# Altium footprint library RcMPPTLib.PcbLib: 62 footprints (part 1 of 4)
Each footprint in its own frame and in the unit in brackets; x right, y up, seen from the top. Pads: shape width x height; smd on the part's side, far side on the other; paste and mask are expansions set on the pad; w line width, h text height; cw(c..) or ccw(c..) is an arc to the next point about the centre after c.
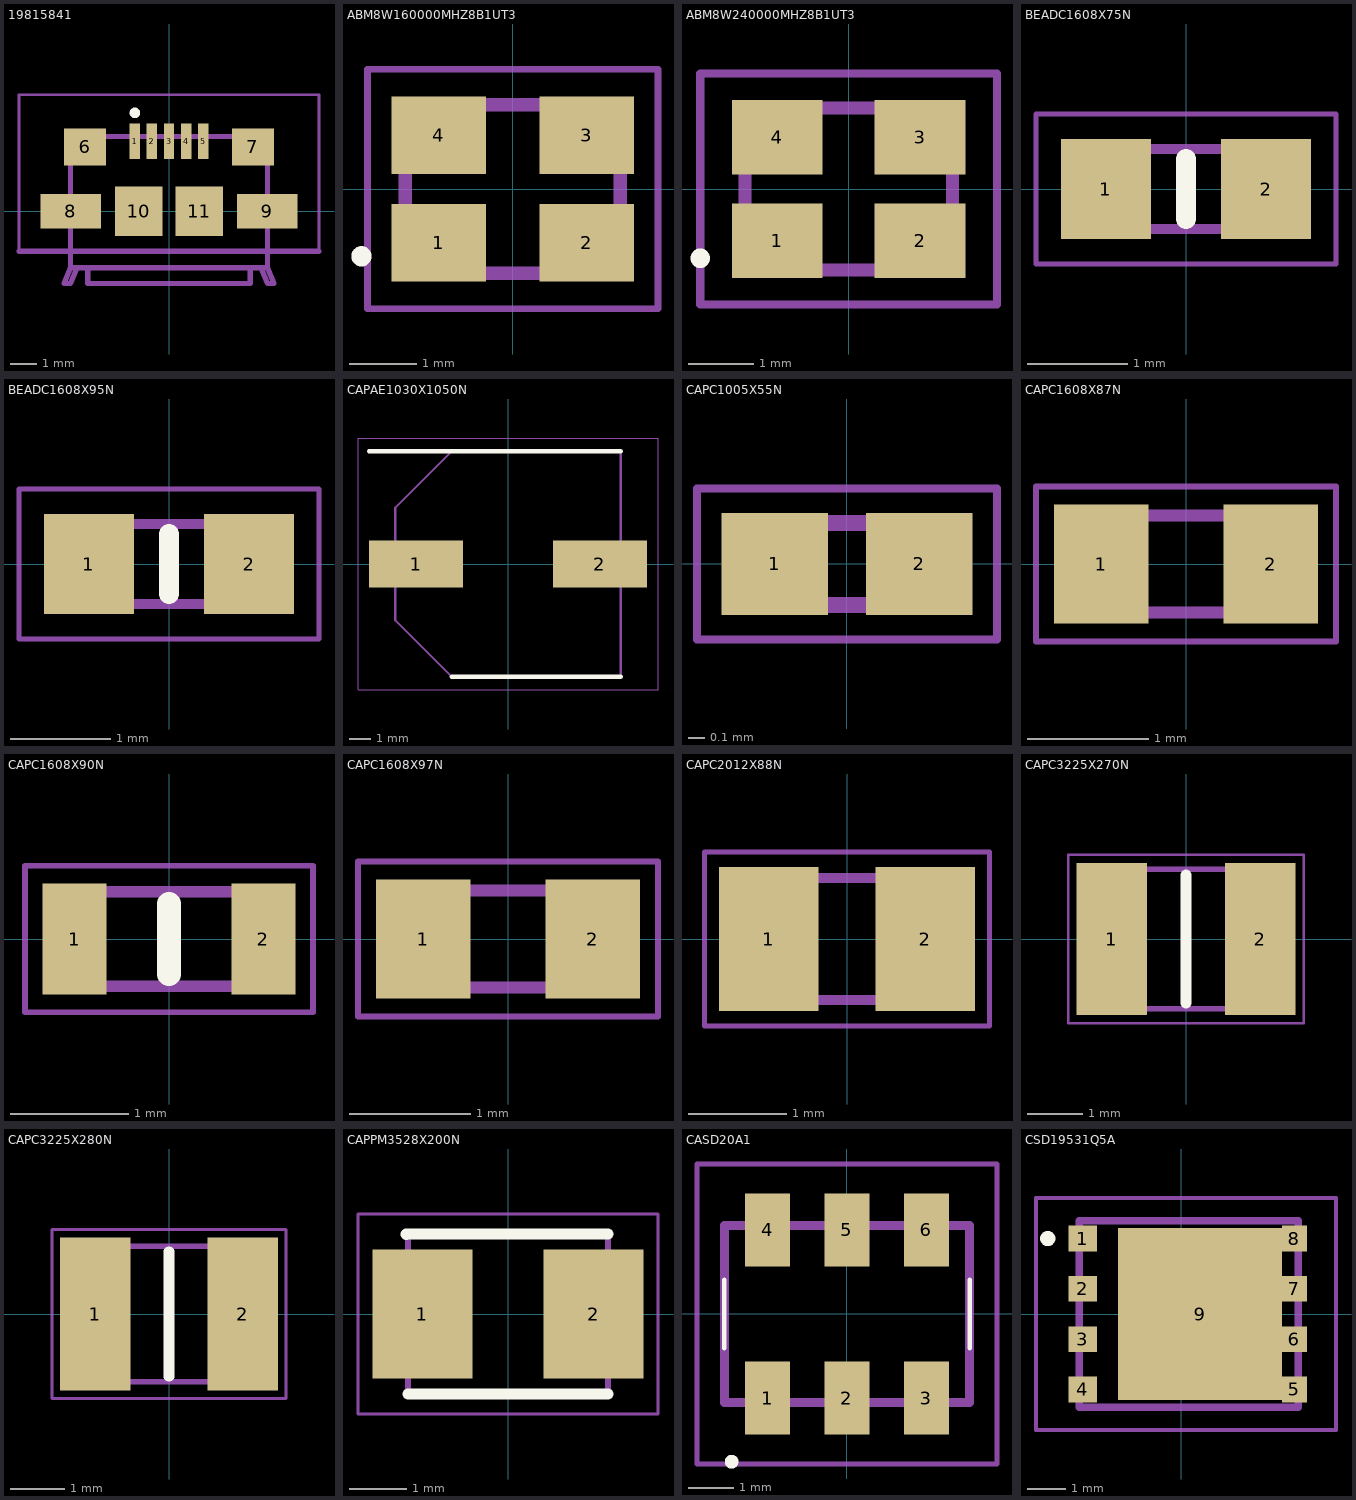
[diagram p0: the footprints below, top view; thin cyan lines are the x and y axes]

## 19815841 [mm]
pads (11):
  rect 0.4x1.35 smd: 1(-1.3,2.675) 2(-0.65,2.675) 3(0,2.675) 4(0.65,2.675) 5(1.3,2.675)
  rect 1.6x1.4 smd: 6(-3.2,2.45) 7(3.2,2.45)
  rect 2.3x1.3 smd: 8(-3.75,0) 9(3.75,0)
  rect 1.8x1.9 smd: 10(-1.15,0) 11(1.15,0)
Top Overlay:
  lines w0.2: -1.4,3.75 cw(c-1.3,3.75) -1.2,3.75 cw(c-1.3,3.75) -1.4,3.75
Mechanical 13:
  lines w0.2: -5.715,-1.524 5.715,-1.524 ; -3.5,-2.15 -3.75,-2.75 -4,-2.75 -3.75,-2.15 ; -3.1,-2.15 -3.1,-2.75 3.1,-2.75 3.1,-2.15 ; 3.5,-2.15 3.75,-2.75 4,-2.75 3.75,-2.15 ; -3.75,-2.15 -3.75,2.85 3.75,2.85 3.75,-2.15 ; -3.75,-2.15 3.75,-2.15
Mechanical 15:
  lines w0.1: -5.715,-1.524 -5.715,4.445 5.715,4.445 5.715,-1.524 -5.715,-1.524
3D body "1981584-1.stp": height 2.8, standoff -0.26, extent -4.4,-2.925 4.4,2.675

## ABM8W160000MHZ8B1UT3 [mm]
pads (4):
  rect 1.4x1.15 smd: 1(-1.1,-0.8) 2(1.1,-0.8) 3(1.1,0.8) 4(-1.1,0.8)
Top Overlay:
  lines w0.2: -2.3,-1 cw(c-2.25,-1) -2.2,-1 cw(c-2.25,-1) -2.3,-1
Mechanical 13:
  lines w0.2: -1.6,-1.25 1.6,-1.25 1.6,1.25 -1.6,1.25 -1.6,-1.25
Mechanical 15:
  lines w0.1: -2.159,-1.778 2.159,-1.778 2.159,1.778 -2.159,1.778 -2.159,-1.778
3D body "ABM8W-16.0000MHZ-8-B1U-T3.stp": height 0.85, standoff 0, extent -1.685,-1.26 1.685,1.26

## ABM8W240000MHZ8B1UT3 [mm]
pads (4):
  rect 1.4x1.15 smd: 1(-1.1,-0.8) 2(1.1,-0.8) 3(1.1,0.8) 4(-1.1,0.8)
Top Overlay:
  lines w0.2: -2.286,-1.116 cw(c-2.286,-1.066) -2.286,-1.016 cw(c-2.286,-1.066) -2.286,-1.116
Mechanical 13:
  lines w0.2: -1.6,-1.25 1.6,-1.25 1.6,1.25 -1.6,1.25 -1.6,-1.25
Mechanical 15:
  lines w0.127: -2.286,-1.778 -2.286,1.778 2.286,1.778 2.286,-1.778 -1.524,-1.778 -2.286,-1.778
3D body "ABM8W-24.0000MHZ-8-B1U-T3.stp": height 0.85, standoff 0, extent -1.685,-1.26 1.685,1.26

## BEADC1608X75N [mm]
pads (2):
  rect 0.9x1 smd: 1(-0.8,0) 2(0.8,0)
Top Overlay:
  lines w0.2: 0,-0.3 0,0.3
Mechanical 13:
  lines w0.1: -0.8,-0.4 -0.8,0.4 0.8,0.4 0.8,-0.4 -0.8,-0.4
Mechanical 15:
  lines w0.05: -1.5,-0.75 -1.5,0.75 1.5,0.75 1.5,-0.75 -1.5,-0.75
3D body "MPZ1608S221ATA00.stp": height 0.75, standoff 0, extent -0.8,-0.4 0.8,0.4

## BEADC1608X95N [mm]
pads (2):
  rect 0.9x1 smd: 1(-0.8,0) 2(0.8,0)
Top Overlay:
  lines w0.2: 0,-0.3 0,0.3
Mechanical 13:
  lines w0.1: -0.8,-0.4 -0.8,0.4 0.8,0.4 0.8,-0.4 -0.8,-0.4
Mechanical 15:
  lines w0.05: -1.5,-0.75 -1.5,0.75 1.5,0.75 1.5,-0.75 -1.5,-0.75
3D body "MPZ1608S221A.stp": height 0.95, standoff 0, extent -0.8,-0.4 0.8,0.4

## CAPAE1030X1050N [mm]
pads (2):
  rect 4.3x2.15 smd: 1(-4.2,0) 2(4.2,0)
Top Overlay:
  lines w0.2: -6.35,5.15 5.15,5.15 ; -2.575,-5.15 5.15,-5.15
Mechanical 13:
  lines w0.1: -5.15,-2.575 -5.15,2.575 -2.575,5.15 5.15,5.15 5.15,-5.15 -2.575,-5.15 -5.15,-2.575
Mechanical 15:
  lines w0.05: -6.85,-5.75 6.85,-5.75 6.85,5.75 -6.85,5.75 -6.85,-5.75
3D body "UUX2A470MNL1GS.stp": height 10.5, standoff 0, extent -5.65,-5.25 5.65,5.25

## CAPC1005X55N [mm]
pads (2):
  rect 0.65x0.62 smd: 1(-0.44,0) 2(0.44,0)
Mechanical 13:
  lines w0.1: -0.5,-0.25 0.5,-0.25 0.5,0.25 -0.5,0.25 -0.5,-0.25
Mechanical 15:
  lines w0.05: -0.915,-0.46 0.915,-0.46 0.915,0.46 -0.915,0.46 -0.915,-0.46
3D body "C0402C689C5GACAUTO.stp": height 0.55, standoff 0, extent -0.5,-0.25 0.5,0.25

## CAPC1608X87N [mm]
pads (2):
  rect 0.78x0.98 smd: 1(-0.7,0) 2(0.7,0)
Mechanical 13:
  lines w0.1: -0.8,-0.4 -0.8,0.4 0.8,0.4 0.8,-0.4 -0.8,-0.4
Mechanical 15:
  lines w0.05: -1.24,-0.64 -1.24,0.64 1.24,0.64 1.24,-0.64 -1.24,-0.64
3D body "C0603C689C5GACTU.stp": height 0.87, standoff 0, extent -0.8,-0.4 0.8,0.4

## CAPC1608X90N [mm]
pads (2):
  rect 0.54x0.94 smd: 1(-0.8,0) 2(0.8,0)
Top Overlay:
  lines w0.2: 0,-0.3 0,0.3
Mechanical 13:
  lines w0.1: -0.8,-0.4 0.8,-0.4 0.8,0.4 -0.8,0.4 -0.8,-0.4
Mechanical 15:
  lines w0.05: -1.22,-0.62 1.22,-0.62 1.22,0.62 -1.22,0.62 -1.22,-0.62
3D body "C1608X5R1E335K080AC.stp": height 0.9, standoff 0, extent -0.8,-0.4 0.8,0.4

## CAPC1608X97N [mm]
pads (2):
  rect 0.78x0.98 smd: 1(-0.7,0) 2(0.7,0)
Mechanical 13:
  lines w0.1: -0.8,-0.4 -0.8,0.4 0.8,0.4 0.8,-0.4 -0.8,-0.4
Mechanical 15:
  lines w0.05: -1.24,-0.64 -1.24,0.64 1.24,0.64 1.24,-0.64 -1.24,-0.64
3D body "VJ0603Y104JXJAC.stp": height 0.97, standoff 0, extent -0.8,-0.4 0.8,0.4

## CAPC2012X88N [mm]
pads (2):
  rect 1.02x1.47 smd: 1(-0.8,0) 2(0.8,0)
Mechanical 13:
  lines w0.1: -1,-0.625 -1,0.625 1,0.625 1,-0.625 -1,-0.625
Mechanical 15:
  lines w0.05: -1.46,-0.89 -1.46,0.89 1.46,0.89 1.46,-0.89 -1.46,-0.89
3D body "C0805C689C5GACTU.stp": height 0.88, standoff 0, extent -1,-0.625 1,0.625

## CAPC3225X270N [mm]
pads (2):
  rect 1.26x2.72 smd: 1(-1.33,0) 2(1.33,0)
Top Overlay:
  lines w0.2: 0,-1.15 0,1.15
Mechanical 13:
  lines w0.1: -1.6,-1.25 1.6,-1.25 1.6,1.25 -1.6,1.25 -1.6,-1.25
Mechanical 15:
  lines w0.05: -2.11,-1.51 2.11,-1.51 2.11,1.51 -2.11,1.51 -2.11,-1.51
3D body "GRM32EC72A106KE05L.stp": height 2.7, standoff 0, extent -1.6,-1.25 1.6,1.25

## CAPC3225X280N [mm]
pads (2):
  rect 1.3x2.82 smd: 1(-1.36,0) 2(1.36,0)
Top Overlay:
  lines w0.2: 0,-1.15 0,1.15
Mechanical 13:
  lines w0.1: -1.6,-1.25 1.6,-1.25 1.6,1.25 -1.6,1.25 -1.6,-1.25
Mechanical 15:
  lines w0.05: -2.16,-1.56 2.16,-1.56 2.16,1.56 -2.16,1.56 -2.16,-1.56
3D body "CL32B106KMVNNWE.stp": height 2.8, standoff 0, extent -1.6,-1.25 1.6,1.25

## CAPPM3528X200N [mm]
pads (2):
  rect 1.75x2.25 smd: 1(-1.5,0) 2(1.5,0)
Top Overlay:
  lines w0.2: -1.778,1.397 1.75,1.4 ; -1.75,-1.4 1.75,-1.4
Mechanical 13:
  lines w0.1: -1.75,-1.4 1.75,-1.4 1.75,1.4 -1.75,1.4 -1.75,-1.4
Mechanical 15:
  lines w0.05: -2.625,-1.75 2.625,-1.75 2.625,1.75 -2.625,1.75 -2.625,-1.75
3D body "8TPE100MAZB.stp": height 2, standoff 0, extent -1.75,-1.4 1.75,1.4

## CASD20A1 [mm]
pads (6):
  rect 1x1.6 smd: 1(-1.75,-1.85) 2(0,-1.85) 3(1.75,-1.85) 4(-1.75,1.85) 5(0,1.85) 6(1.75,1.85)
Top Overlay:
  lines w0.1: -2.7,-0.75 -2.7,0.75 -2.7,-0.75 ; 2.7,-0.75 2.7,0.75 2.7,-0.75
  lines w0.2: -2.54,-3.302 ccw(c-2.54,-3.252) -2.54,-3.202 ccw(c-2.54,-3.252) -2.54,-3.302
Mechanical 13:
  lines w0.2: -2.7,-1.95 -2.7,1.95 2.7,1.95 2.7,-1.95 -2.7,-1.95
Mechanical 15:
  lines w0.1: -3.302,-3.302 -3.302,3.302 3.302,3.302 3.302,-3.302 -3.302,-3.302
3D body "CAS-D20A1.stp": height 2.6, standoff 0, extent -2.7,-2.55 2.7,2.55

## CSD19531Q5A [mm]
pads (9):
  rect 0.75x0.675 smd: 1(-2.579,1.98) 2(-2.579,0.66) 3(-2.579,-0.66) 4(-2.579,-1.98)
  rect 0.655x0.675 smd: 5(2.974,-1.98) 6(2.974,-0.66) 7(2.974,0.66) 8(2.974,1.98)
  rect 4.295x4.51 smd: 9(0.496,0)
Top Overlay:
  lines w0.2: -3.602,1.98 ccw(c-3.502,1.98) -3.402,1.98 ccw(c-3.502,1.98) -3.602,1.98
Mechanical 13:
  lines w0.2: -2.677,-2.45 -2.677,2.45 3.073,2.45 3.073,-2.45 -2.677,-2.45
Mechanical 15:
  lines w0.1: -3.81,-3.048 4.064,-3.048 4.064,3.048 -3.81,3.048 -3.81,-3.048
3D body "CSD19531Q5A.stp": height 1.2, standoff 0, extent -2.886,-2.45 3.236,2.45